# Altium footprint library PCB - LEADLESS - SON - NXP XSON6 - 1X1.45mm SOT886.PcbLib: 1 footprints
Each footprint in its own frame and in the unit in brackets; x right, y up, seen from the top. Pads: shape width x height; smd on the part's side, far side on the other; paste and mask are expansions set on the pad; w line width, h text height; cw(c..) or ccw(c..) is an arc to the next point about the centre after c.
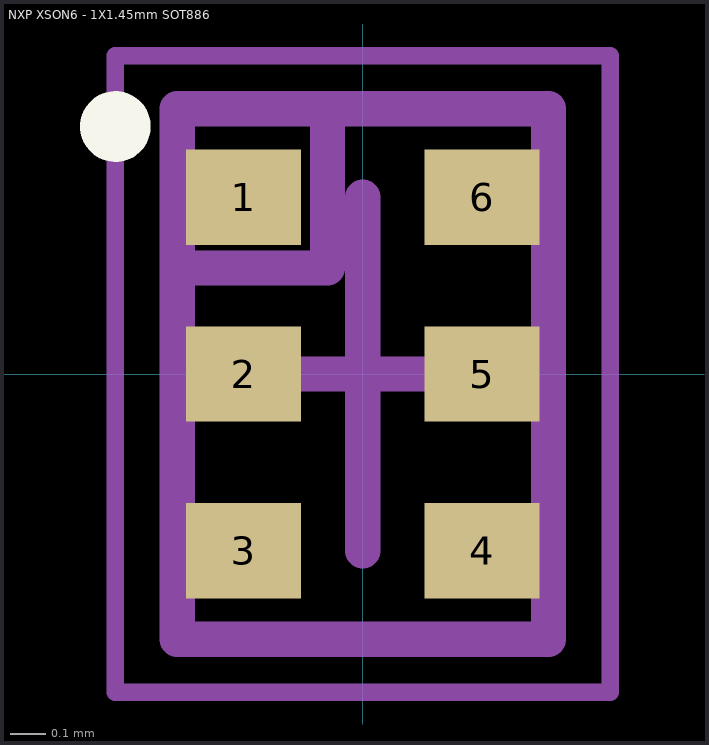
[diagram p0: the footprint, top view; thin cyan lines are the x and y axes]

## NXP XSON6 - 1X1.45mm SOT886 [mm] "XSON, 6-Leads, Body 1.45x1.00mm, Pitch 0.50mm"
height 0.5
pads (6):
  rect 0.325x0.27 smd: 1(-0.337,0.5) 2(-0.337,0) 3(-0.337,-0.5) 4(0.337,-0.5) 5(0.337,0) 6(0.337,0.5)
Top Overlay:
  circle w0.1: c-0.7,0.7 r0.05
Mechanical 13:
  lines w0.1: -0.5,0.3 -0.1,0.3 -0.1,0.75 ; -0.525,-0.75 -0.525,0.75 0.525,0.75 0.525,-0.75 -0.525,-0.75
Mechanical 15:
  lines w0.05: -0.7,-0.9 -0.7,0.9 0.7,0.9 0.7,-0.9 -0.7,-0.9
  lines w0.1: -0.5,0 0.5,0 ; 0,-0.5 0,0.5
3D body "NXP XSON6 - 1X1.45mm SOT886.step": height 0.5, standoff 0, extent -0.526,-0.75 0.526,0.75